# Altium schematic symbol library kmilo17pet-NSC_Switcher.SchLib: 2226 symbols (part 40 of 59)
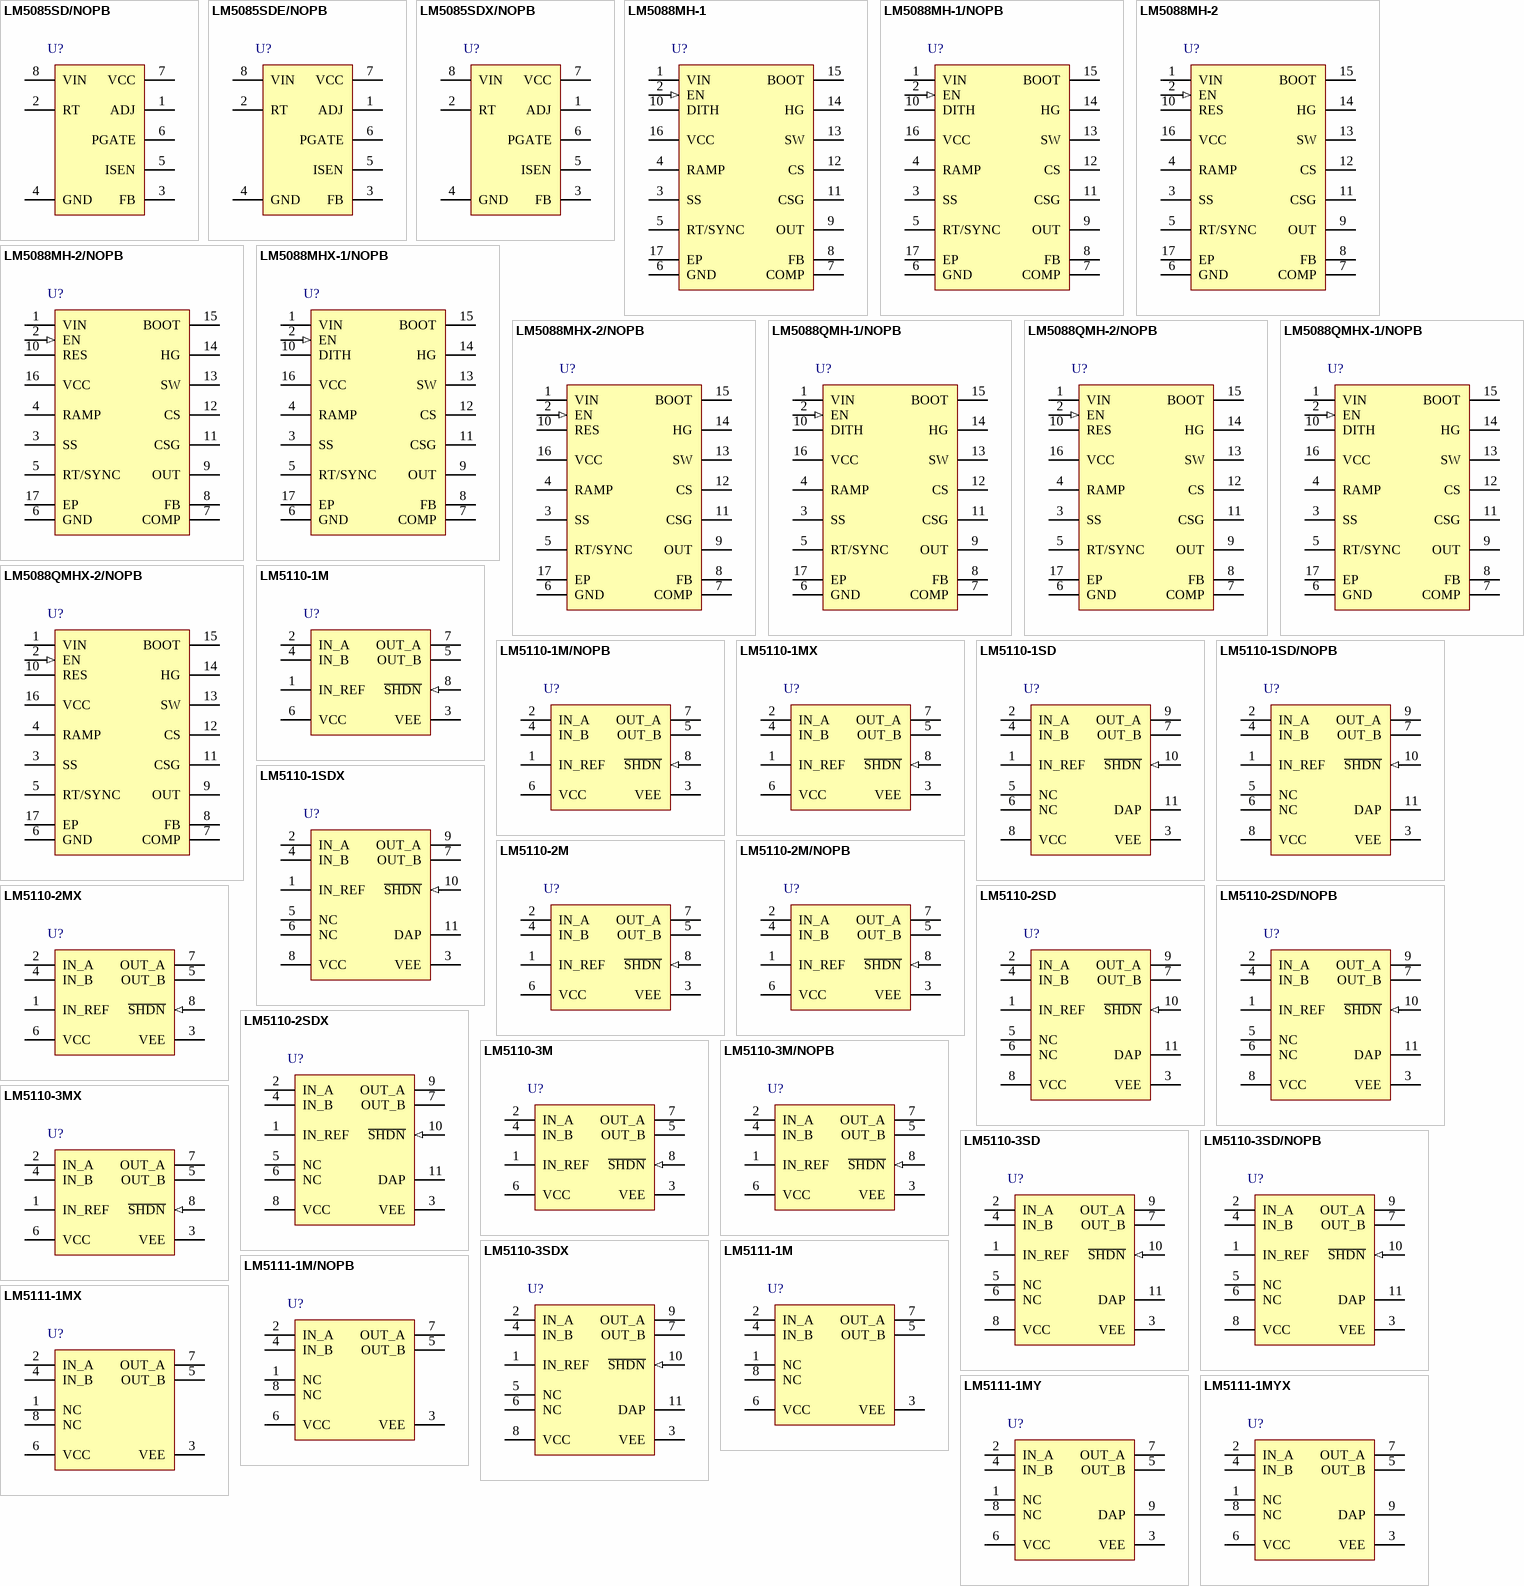
[diagram p108: symbols LM5085SD/NOPB to LM5111-1MYX]

## LM5110-3SD
designator U?
Dual 5A Compound Gate Driver with Negative Output Voltage Capability, 10-pin LLP; PartNumber: LM5110-3SD; Manufacturer: National Semiconductor; PackageTopMarking: NS*UZXYTT*5110-3; PowerWise: N; CompType: Switcher; High-Reliability: Y; DatasheetVersion: Oct-2003; PackageVersion: revA, May-2003; PackageReference: SDC10A; PackageDescription: LLP, Plastic, Dual, 4 x 4 x 0.8mm Body, 10 Lead, 0.8mm Pitch, No Pullback; RoHS: N; PinCount: 10; ComponentLink1Description: Manufacturer URL; ComponentLink1URL: http://www.national.com/; ComponentLink2Description: LM5110 Datasheet; ComponentLink2URL: http://www.national.com/ds/LM/LM5110.pdf; ComponentLink3Description: LM5110 Web Page; ComponentLink3URL: http://www.national.com/pf/LM/LM5110.html; ComponentLink4Description: SDC10A Package Page; ComponentLink4URL: http://www.national.com/packaging/folders/sdc10a.html
footprint SDC10A (SON, 10-Leads, Body 4x4 mm, Pitch 0.8mm, NSC Recommended)
pins: 1 IN_REF (power), 2 IN_A (power), 3 VEE (power), 4 IN_B (power), 5 NC, 6 NC, 7 OUT_B (power), 8 VCC (power), 9 OUT_A (power), 10 ~{SHDN} (in), 11 DAP (power)

## LM5110-3SD/NOPB
designator U?
Dual 5A Compound Gate Driver with Negative Output Voltage Capability, 10-pin LLP, Pb-Free; PartNumber: LM5110-3SD/NOPB; Manufacturer: National Semiconductor; PackageTopMarking: NS*UZXYTT*5110-3; PowerWise: N; CompType: Switcher; High-Reliability: Y; DatasheetVersion: Oct-2003; PackageVersion: revA, May-2003; PackageReference: SDC10A; PackageDescription: LLP, Plastic, Dual, 4 x 4 x 0.8mm Body, 10 Lead, 0.8mm Pitch, No Pullback; RoHS: Y; PinCount: 10; ComponentLink1Description: Manufacturer URL; ComponentLink1URL: http://www.national.com/; ComponentLink2Description: LM5110 Datasheet; ComponentLink2URL: http://www.national.com/ds/LM/LM5110.pdf; ComponentLink3Description: LM5110 Web Page; ComponentLink3URL: http://www.national.com/pf/LM/LM5110.html; ComponentLink4Description: SDC10A Package Page; ComponentLink4URL: http://www.national.com/packaging/folders/sdc10a.html
footprint SDC10A (SON, 10-Leads, Body 4x4 mm, Pitch 0.8mm, NSC Recommended)
pins: 1 IN_REF (power), 2 IN_A (power), 3 VEE (power), 4 IN_B (power), 5 NC, 6 NC, 7 OUT_B (power), 8 VCC (power), 9 OUT_A (power), 10 ~{SHDN} (in), 11 DAP (power)

## LM5110-3SDX
designator U?
Dual 5A Compound Gate Driver with Negative Output Voltage Capability, 10-pin LLP; PartNumber: LM5110-3SDX; Manufacturer: National Semiconductor; PackageTopMarking: NS*UZXYTT*5110-3; PowerWise: N; CompType: Switcher; High-Reliability: Y; DatasheetVersion: Oct-2003; PackageVersion: revA, May-2003; PackageReference: SDC10A; PackageDescription: LLP, Plastic, Dual, 4 x 4 x 0.8mm Body, 10 Lead, 0.8mm Pitch, No Pullback; RoHS: N; PinCount: 10; ComponentLink1Description: Manufacturer URL; ComponentLink1URL: http://www.national.com/; ComponentLink2Description: LM5110 Datasheet; ComponentLink2URL: http://www.national.com/ds/LM/LM5110.pdf; ComponentLink3Description: LM5110 Web Page; ComponentLink3URL: http://www.national.com/pf/LM/LM5110.html; ComponentLink4Description: SDC10A Package Page; ComponentLink4URL: http://www.national.com/packaging/folders/sdc10a.html
footprint SDC10A (SON, 10-Leads, Body 4x4 mm, Pitch 0.8mm, NSC Recommended)
pins: 1 IN_REF (power), 2 IN_A (power), 3 VEE (power), 4 IN_B (power), 5 NC, 6 NC, 7 OUT_B (power), 8 VCC (power), 9 OUT_A (power), 10 ~{SHDN} (in), 11 DAP (power)

## LM5111-1M
designator U?
Dual 5A Compound Gate Driver, 8-pin Narrow SOIC; PartNumber: LM5111-1M; Manufacturer: National Semiconductor; PackageTopMarking: NSXYTT*5111*-1M; PowerWise: N; CompType: Switcher; High-Reliability: Y; DatasheetVersion: Nov-2007; PackageVersion: revM, May-2009; PackageReference: M08A; PackageDescription: SOIC Narrow, 4.9 x 3.9 x 1.45mm, 8 Lead, 1.27mm Pitch; RoHS: N; PinCount: 8; Code_JEDEC: MS-012-AA; Code_IPC: SOIC127P600-8; ComponentLink1Description: Manufacturer URL; ComponentLink1URL: http://www.national.com/; ComponentLink2Description: LM5111 Datasheet; ComponentLink2URL: http://www.national.com/ds/LM/LM5111.pdf; ComponentLink3Description: LM5111 Web Page; ComponentLink3URL: http://www.national.com/pf/LM/LM5111.html; ComponentLink4Description: M08A Package Page; ComponentLink4URL: http://www.national.com/packaging/folders/m08a.html
footprint M08A_N (SOIC, 8-Leads, Body 4.9x3.9mm, Pitch 1.27mm, IPC Medium Density)
footprint M08A_L (SOIC, 8-Leads, Body 4.9x3.9mm, Pitch 1.27mm, IPC High Density)
footprint M08A_M (SOIC, 8-Leads, Body 4.9x3.9mm, Pitch 1.27mm, IPC Low Density)
pins: 1 NC, 2 IN_A (power), 3 VEE (power), 4 IN_B (power), 5 OUT_B (power), 6 VCC (power), 7 OUT_A (power), 8 NC

## LM5111-1M/NOPB
designator U?
Dual 5A Compound Gate Driver, 8-pin Narrow SOIC, Pb-Free; PartNumber: LM5111-1M/NOPB; Manufacturer: National Semiconductor; PackageTopMarking: NSXYTT*5111*-1M; PowerWise: N; CompType: Switcher; High-Reliability: Y; DatasheetVersion: Nov-2007; PackageVersion: revM, May-2009; PackageReference: M08A; PackageDescription: SOIC Narrow, 4.9 x 3.9 x 1.45mm, 8 Lead, 1.27mm Pitch; RoHS: Y; PinCount: 8; Code_JEDEC: MS-012-AA; Code_IPC: SOIC127P600-8; ComponentLink1Description: Manufacturer URL; ComponentLink1URL: http://www.national.com/; ComponentLink2Description: LM5111 Datasheet; ComponentLink2URL: http://www.national.com/ds/LM/LM5111.pdf; ComponentLink3Description: LM5111 Web Page; ComponentLink3URL: http://www.national.com/pf/LM/LM5111.html; ComponentLink4Description: M08A Package Page; ComponentLink4URL: http://www.national.com/packaging/folders/m08a.html
footprint M08A_N (SOIC, 8-Leads, Body 4.9x3.9mm, Pitch 1.27mm, IPC Medium Density)
footprint M08A_L (SOIC, 8-Leads, Body 4.9x3.9mm, Pitch 1.27mm, IPC High Density)
footprint M08A_M (SOIC, 8-Leads, Body 4.9x3.9mm, Pitch 1.27mm, IPC Low Density)
pins: 1 NC, 2 IN_A (power), 3 VEE (power), 4 IN_B (power), 5 OUT_B (power), 6 VCC (power), 7 OUT_A (power), 8 NC

## LM5111-1MX
designator U?
Dual 5A Compound Gate Driver, 8-pin Narrow SOIC; PartNumber: LM5111-1MX; Manufacturer: National Semiconductor; PackageTopMarking: NSZXTT*5111*-1M; PowerWise: N; CompType: Switcher; High-Reliability: Y; DatasheetVersion: Nov-2007; PackageVersion: revM, May-2009; PackageReference: M08A; PackageDescription: SOIC Narrow, 4.9 x 3.9 x 1.45mm, 8 Lead, 1.27mm Pitch; RoHS: N; PinCount: 8; Code_JEDEC: MS-012-AA; Code_IPC: SOIC127P600-8; ComponentLink1Description: Manufacturer URL; ComponentLink1URL: http://www.national.com/; ComponentLink2Description: LM5111 Datasheet; ComponentLink2URL: http://www.national.com/ds/LM/LM5111.pdf; ComponentLink3Description: LM5111 Web Page; ComponentLink3URL: http://www.national.com/pf/LM/LM5111.html; ComponentLink4Description: M08A Package Page; ComponentLink4URL: http://www.national.com/packaging/folders/m08a.html
footprint M08A_N (SOIC, 8-Leads, Body 4.9x3.9mm, Pitch 1.27mm, IPC Medium Density)
footprint M08A_L (SOIC, 8-Leads, Body 4.9x3.9mm, Pitch 1.27mm, IPC High Density)
footprint M08A_M (SOIC, 8-Leads, Body 4.9x3.9mm, Pitch 1.27mm, IPC Low Density)
pins: 1 NC, 2 IN_A (power), 3 VEE (power), 4 IN_B (power), 5 OUT_B (power), 6 VCC (power), 7 OUT_A (power), 8 NC

## LM5111-1MY
designator U?
Dual 5A Compound Gate Driver, 8-pin eMSOP; PartNumber: LM5111-1MY; Manufacturer: National Semiconductor; PackageTopMarking: ZXTT*SJKB; PowerWise: N; CompType: Switcher; High-Reliability: Y; DatasheetVersion: Nov-2007; PackageVersion: revA, Nov-2003; PackageReference: MUY08A; PackageDescription: Molded Mini-SO, Exposed Pad, .118 x .118 x .034in Body, 8 Lead, .0256in Pitch; RoHS: N; PinCount: 8; Code_JEDEC: MO-187-AA; ComponentLink1Description: Manufacturer URL; ComponentLink1URL: http://www.national.com/; ComponentLink2Description: LM5111 Datasheet; ComponentLink2URL: http://www.national.com/ds/LM/LM5111.pdf; ComponentLink3Description: LM5111 Web Page; ComponentLink3URL: http://www.national.com/pf/LM/LM5111.html; ComponentLink4Description: MUY08A Package Page; ComponentLink4URL: http://www.national.com/packaging/folders/muy08a.html
footprint MUY08A_N (TSOP, 8-Leads, Body 3x3mm, Pitch 0.65mm, Thermal Pad, IPC Medium Density)
footprint MUY08A_L (TSOP, 8-Leads, Body 3x3mm, Pitch 0.65mm, Thermal Pad, IPC High Density)
footprint MUY08A_M (TSOP, 8-Leads, Body 3x3mm, Pitch 0.65mm, Thermal Pad, IPC Low Density)
pins: 1 NC, 2 IN_A (power), 3 VEE (power), 4 IN_B (power), 5 OUT_B (power), 6 VCC (power), 7 OUT_A (power), 8 NC, 9 DAP (power)

## LM5111-1MYX
designator U?
Dual 5A Compound Gate Driver, 8-pin eMSOP; PartNumber: LM5111-1MYX; Manufacturer: National Semiconductor; PackageTopMarking: ZXTT*SJKB; PowerWise: N; CompType: Switcher; High-Reliability: Y; DatasheetVersion: Nov-2007; PackageVersion: revA, Nov-2003; PackageReference: MUY08A; PackageDescription: Molded Mini-SO, Exposed Pad, .118 x .118 x .034in Body, 8 Lead, .0256in Pitch; RoHS: N; PinCount: 8; Code_JEDEC: MO-187-AA; ComponentLink1Description: Manufacturer URL; ComponentLink1URL: http://www.national.com/; ComponentLink2Description: LM5111 Datasheet; ComponentLink2URL: http://www.national.com/ds/LM/LM5111.pdf; ComponentLink3Description: LM5111 Web Page; ComponentLink3URL: http://www.national.com/pf/LM/LM5111.html; ComponentLink4Description: MUY08A Package Page; ComponentLink4URL: http://www.national.com/packaging/folders/muy08a.html
footprint MUY08A_N (TSOP, 8-Leads, Body 3x3mm, Pitch 0.65mm, Thermal Pad, IPC Medium Density)
footprint MUY08A_L (TSOP, 8-Leads, Body 3x3mm, Pitch 0.65mm, Thermal Pad, IPC High Density)
footprint MUY08A_M (TSOP, 8-Leads, Body 3x3mm, Pitch 0.65mm, Thermal Pad, IPC Low Density)
pins: 1 NC, 2 IN_A (power), 3 VEE (power), 4 IN_B (power), 5 OUT_B (power), 6 VCC (power), 7 OUT_A (power), 8 NC, 9 DAP (power)

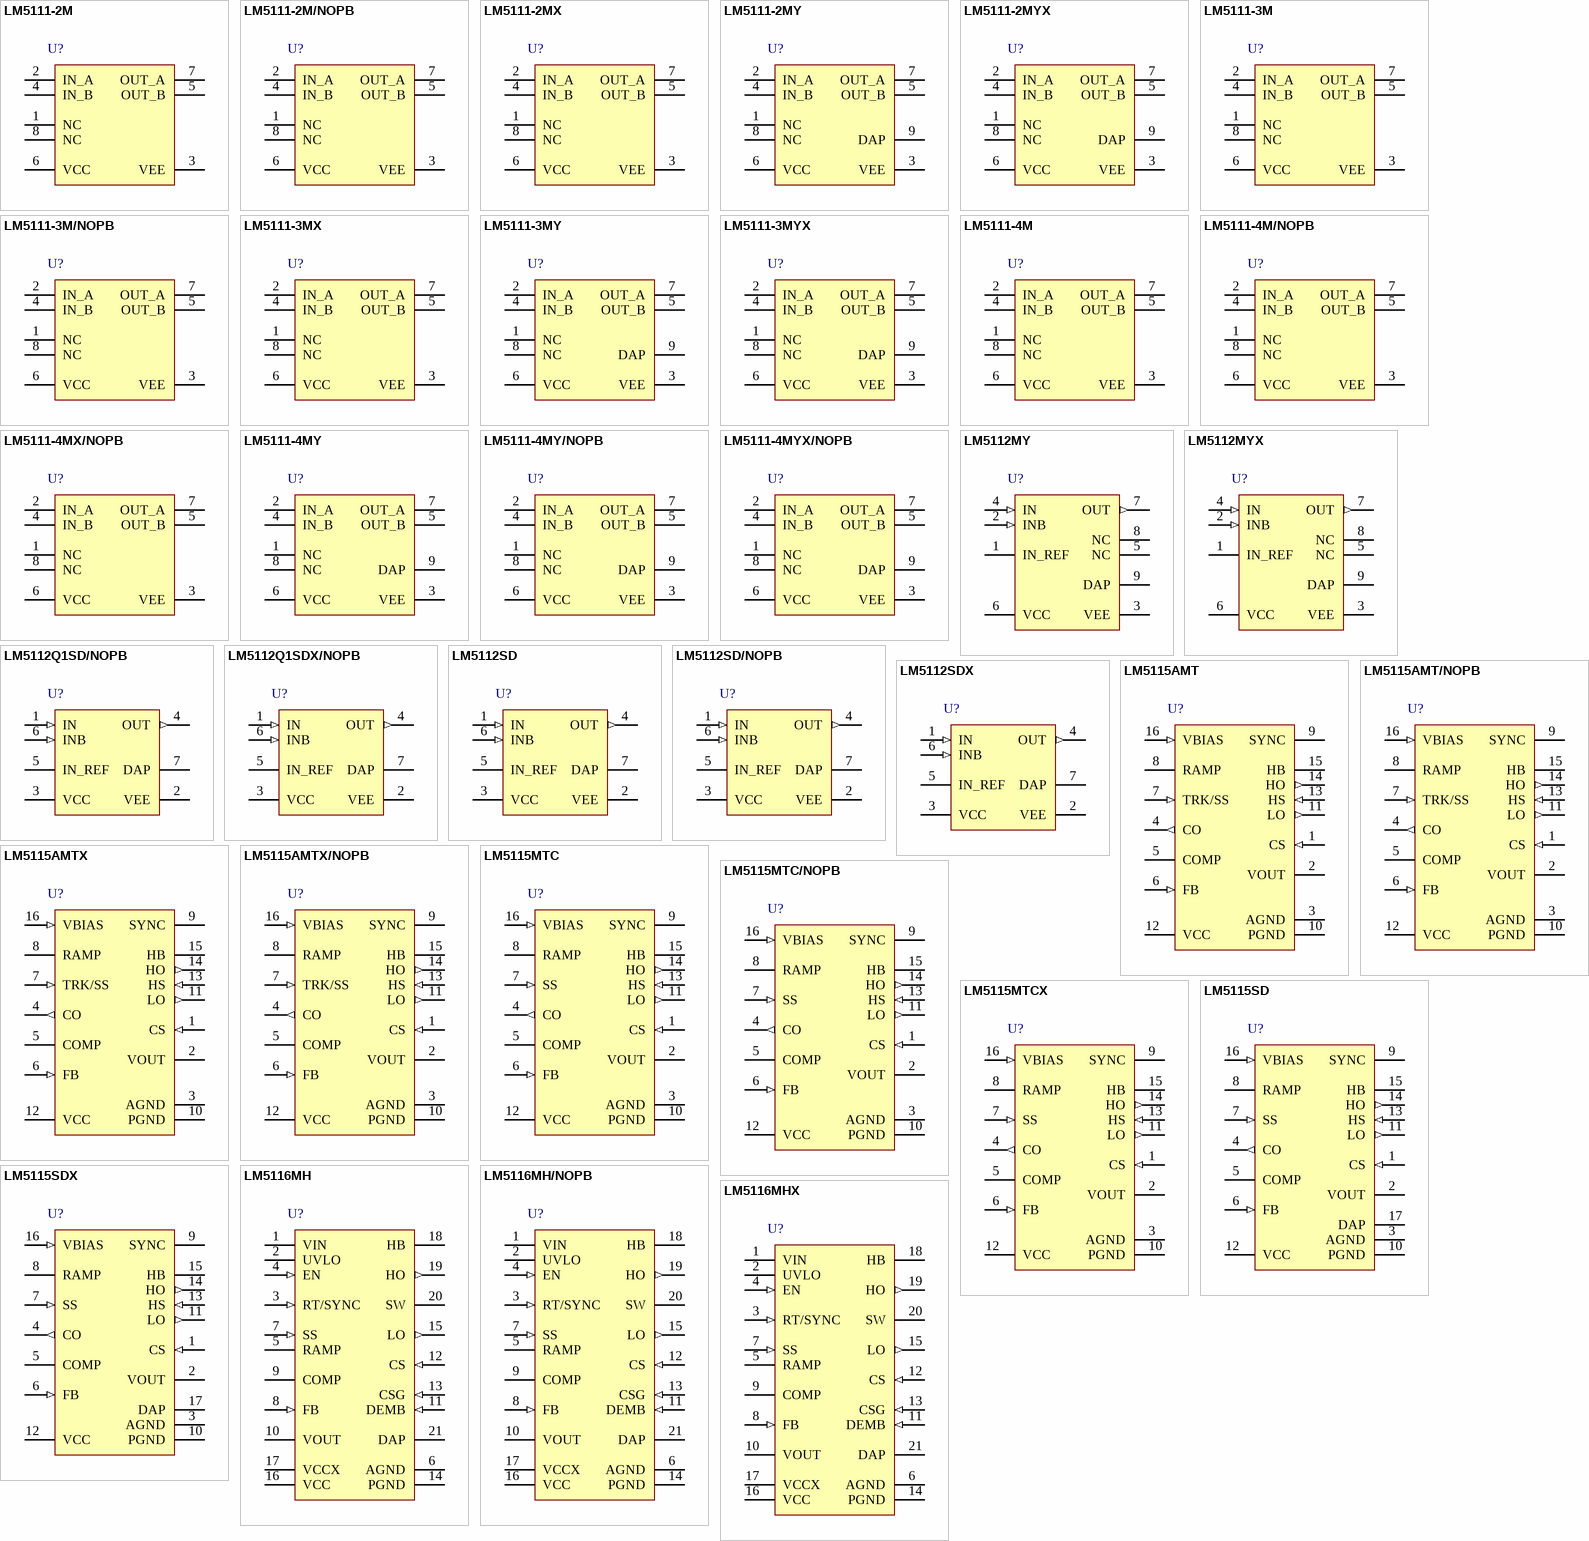
[diagram p44: symbols LM5111-2M to LM5116MHX]

## LM5111-2M
designator U?
Dual 5A Compound Gate Driver, 8-pin Narrow SOIC; PartNumber: LM5111-2M; Manufacturer: National Semiconductor; PackageTopMarking: NSXYTT*5111*-2M; PowerWise: N; CompType: Switcher; High-Reliability: Y; DatasheetVersion: Nov-2007; PackageVersion: revM, May-2009; PackageReference: M08A; PackageDescription: SOIC Narrow, 4.9 x 3.9 x 1.45mm, 8 Lead, 1.27mm Pitch; RoHS: N; PinCount: 8; Code_JEDEC: MS-012-AA; Code_IPC: SOIC127P600-8; ComponentLink1Description: Manufacturer URL; ComponentLink1URL: http://www.national.com/; ComponentLink2Description: LM5111 Datasheet; ComponentLink2URL: http://www.national.com/ds/LM/LM5111.pdf; ComponentLink3Description: LM5111 Web Page; ComponentLink3URL: http://www.national.com/pf/LM/LM5111.html; ComponentLink4Description: M08A Package Page; ComponentLink4URL: http://www.national.com/packaging/folders/m08a.html
footprint M08A_N (SOIC, 8-Leads, Body 4.9x3.9mm, Pitch 1.27mm, IPC Medium Density)
footprint M08A_L (SOIC, 8-Leads, Body 4.9x3.9mm, Pitch 1.27mm, IPC High Density)
footprint M08A_M (SOIC, 8-Leads, Body 4.9x3.9mm, Pitch 1.27mm, IPC Low Density)
pins: 1 NC, 2 IN_A (power), 3 VEE (power), 4 IN_B (power), 5 OUT_B (power), 6 VCC (power), 7 OUT_A (power), 8 NC

## LM5111-2M/NOPB
designator U?
Dual 5A Compound Gate Driver, 8-pin Narrow SOIC, Pb-Free; PartNumber: LM5111-2M/NOPB; Manufacturer: National Semiconductor; PackageTopMarking: NSXYTT*5111*-2M; PowerWise: N; CompType: Switcher; High-Reliability: Y; DatasheetVersion: Nov-2007; PackageVersion: revM, May-2009; PackageReference: M08A; PackageDescription: SOIC Narrow, 4.9 x 3.9 x 1.45mm, 8 Lead, 1.27mm Pitch; RoHS: Y; PinCount: 8; Code_JEDEC: MS-012-AA; Code_IPC: SOIC127P600-8; ComponentLink1Description: Manufacturer URL; ComponentLink1URL: http://www.national.com/; ComponentLink2Description: LM5111 Datasheet; ComponentLink2URL: http://www.national.com/ds/LM/LM5111.pdf; ComponentLink3Description: LM5111 Web Page; ComponentLink3URL: http://www.national.com/pf/LM/LM5111.html; ComponentLink4Description: M08A Package Page; ComponentLink4URL: http://www.national.com/packaging/folders/m08a.html
footprint M08A_N (SOIC, 8-Leads, Body 4.9x3.9mm, Pitch 1.27mm, IPC Medium Density)
footprint M08A_L (SOIC, 8-Leads, Body 4.9x3.9mm, Pitch 1.27mm, IPC High Density)
footprint M08A_M (SOIC, 8-Leads, Body 4.9x3.9mm, Pitch 1.27mm, IPC Low Density)
pins: 1 NC, 2 IN_A (power), 3 VEE (power), 4 IN_B (power), 5 OUT_B (power), 6 VCC (power), 7 OUT_A (power), 8 NC

## LM5111-2MX
designator U?
Dual 5A Compound Gate Driver, 8-pin Narrow SOIC; PartNumber: LM5111-2MX; Manufacturer: National Semiconductor; PackageTopMarking: NSZXTT*5111*-2M; PowerWise: N; CompType: Switcher; High-Reliability: Y; DatasheetVersion: Nov-2007; PackageVersion: revM, May-2009; PackageReference: M08A; PackageDescription: SOIC Narrow, 4.9 x 3.9 x 1.45mm, 8 Lead, 1.27mm Pitch; RoHS: N; PinCount: 8; Code_JEDEC: MS-012-AA; Code_IPC: SOIC127P600-8; ComponentLink1Description: Manufacturer URL; ComponentLink1URL: http://www.national.com/; ComponentLink2Description: LM5111 Datasheet; ComponentLink2URL: http://www.national.com/ds/LM/LM5111.pdf; ComponentLink3Description: LM5111 Web Page; ComponentLink3URL: http://www.national.com/pf/LM/LM5111.html; ComponentLink4Description: M08A Package Page; ComponentLink4URL: http://www.national.com/packaging/folders/m08a.html
footprint M08A_N (SOIC, 8-Leads, Body 4.9x3.9mm, Pitch 1.27mm, IPC Medium Density)
footprint M08A_L (SOIC, 8-Leads, Body 4.9x3.9mm, Pitch 1.27mm, IPC High Density)
footprint M08A_M (SOIC, 8-Leads, Body 4.9x3.9mm, Pitch 1.27mm, IPC Low Density)
pins: 1 NC, 2 IN_A (power), 3 VEE (power), 4 IN_B (power), 5 OUT_B (power), 6 VCC (power), 7 OUT_A (power), 8 NC

## LM5111-2MY
designator U?
Dual 5A Compound Gate Driver, 8-pin eMSOP; PartNumber: LM5111-2MY; Manufacturer: National Semiconductor; PackageTopMarking: ZXTT*SJLB; PowerWise: N; CompType: Switcher; High-Reliability: Y; DatasheetVersion: Nov-2007; PackageVersion: revA, Nov-2003; PackageReference: MUY08A; PackageDescription: Molded Mini-SO, Exposed Pad, .118 x .118 x .034in Body, 8 Lead, .0256in Pitch; RoHS: N; PinCount: 8; Code_JEDEC: MO-187-AA; ComponentLink1Description: Manufacturer URL; ComponentLink1URL: http://www.national.com/; ComponentLink2Description: LM5111 Datasheet; ComponentLink2URL: http://www.national.com/ds/LM/LM5111.pdf; ComponentLink3Description: LM5111 Web Page; ComponentLink3URL: http://www.national.com/pf/LM/LM5111.html; ComponentLink4Description: MUY08A Package Page; ComponentLink4URL: http://www.national.com/packaging/folders/muy08a.html
footprint MUY08A_N (TSOP, 8-Leads, Body 3x3mm, Pitch 0.65mm, Thermal Pad, IPC Medium Density)
footprint MUY08A_L (TSOP, 8-Leads, Body 3x3mm, Pitch 0.65mm, Thermal Pad, IPC High Density)
footprint MUY08A_M (TSOP, 8-Leads, Body 3x3mm, Pitch 0.65mm, Thermal Pad, IPC Low Density)
pins: 1 NC, 2 IN_A (power), 3 VEE (power), 4 IN_B (power), 5 OUT_B (power), 6 VCC (power), 7 OUT_A (power), 8 NC, 9 DAP (power)

## LM5111-2MYX
designator U?
Dual 5A Compound Gate Driver, 8-pin eMSOP; PartNumber: LM5111-2MYX; Manufacturer: National Semiconductor; PackageTopMarking: ZXTT*SJLB; PowerWise: N; CompType: Switcher; High-Reliability: Y; DatasheetVersion: Nov-2007; PackageVersion: revA, Nov-2003; PackageReference: MUY08A; PackageDescription: Molded Mini-SO, Exposed Pad, .118 x .118 x .034in Body, 8 Lead, .0256in Pitch; RoHS: N; PinCount: 8; Code_JEDEC: MO-187-AA; ComponentLink1Description: Manufacturer URL; ComponentLink1URL: http://www.national.com/; ComponentLink2Description: LM5111 Datasheet; ComponentLink2URL: http://www.national.com/ds/LM/LM5111.pdf; ComponentLink3Description: LM5111 Web Page; ComponentLink3URL: http://www.national.com/pf/LM/LM5111.html; ComponentLink4Description: MUY08A Package Page; ComponentLink4URL: http://www.national.com/packaging/folders/muy08a.html
footprint MUY08A_N (TSOP, 8-Leads, Body 3x3mm, Pitch 0.65mm, Thermal Pad, IPC Medium Density)
footprint MUY08A_L (TSOP, 8-Leads, Body 3x3mm, Pitch 0.65mm, Thermal Pad, IPC High Density)
footprint MUY08A_M (TSOP, 8-Leads, Body 3x3mm, Pitch 0.65mm, Thermal Pad, IPC Low Density)
pins: 1 NC, 2 IN_A (power), 3 VEE (power), 4 IN_B (power), 5 OUT_B (power), 6 VCC (power), 7 OUT_A (power), 8 NC, 9 DAP (power)

## LM5111-3M
designator U?
Dual 5A Compound Gate Driver, 8-pin Narrow SOIC; PartNumber: LM5111-3M; Manufacturer: National Semiconductor; PackageTopMarking: NSXYTT*5111*-3M; PowerWise: N; CompType: Switcher; High-Reliability: Y; DatasheetVersion: Nov-2007; PackageVersion: revM, May-2009; PackageReference: M08A; PackageDescription: SOIC Narrow, 4.9 x 3.9 x 1.45mm, 8 Lead, 1.27mm Pitch; RoHS: N; PinCount: 8; Code_JEDEC: MS-012-AA; Code_IPC: SOIC127P600-8; ComponentLink1Description: Manufacturer URL; ComponentLink1URL: http://www.national.com/; ComponentLink2Description: LM5111 Datasheet; ComponentLink2URL: http://www.national.com/ds/LM/LM5111.pdf; ComponentLink3Description: LM5111 Web Page; ComponentLink3URL: http://www.national.com/pf/LM/LM5111.html; ComponentLink4Description: M08A Package Page; ComponentLink4URL: http://www.national.com/packaging/folders/m08a.html
footprint M08A_N (SOIC, 8-Leads, Body 4.9x3.9mm, Pitch 1.27mm, IPC Medium Density)
footprint M08A_L (SOIC, 8-Leads, Body 4.9x3.9mm, Pitch 1.27mm, IPC High Density)
footprint M08A_M (SOIC, 8-Leads, Body 4.9x3.9mm, Pitch 1.27mm, IPC Low Density)
pins: 1 NC, 2 IN_A (power), 3 VEE (power), 4 IN_B (power), 5 OUT_B (power), 6 VCC (power), 7 OUT_A (power), 8 NC

## LM5111-3M/NOPB
designator U?
Dual 5A Compound Gate Driver, 8-pin Narrow SOIC, Pb-Free; PartNumber: LM5111-3M/NOPB; Manufacturer: National Semiconductor; PackageTopMarking: NSXYTT*5111*-3M; PowerWise: N; CompType: Switcher; High-Reliability: Y; DatasheetVersion: Nov-2007; PackageVersion: revM, May-2009; PackageReference: M08A; PackageDescription: SOIC Narrow, 4.9 x 3.9 x 1.45mm, 8 Lead, 1.27mm Pitch; RoHS: Y; PinCount: 8; Code_JEDEC: MS-012-AA; Code_IPC: SOIC127P600-8; ComponentLink1Description: Manufacturer URL; ComponentLink1URL: http://www.national.com/; ComponentLink2Description: LM5111 Datasheet; ComponentLink2URL: http://www.national.com/ds/LM/LM5111.pdf; ComponentLink3Description: LM5111 Web Page; ComponentLink3URL: http://www.national.com/pf/LM/LM5111.html; ComponentLink4Description: M08A Package Page; ComponentLink4URL: http://www.national.com/packaging/folders/m08a.html
footprint M08A_N (SOIC, 8-Leads, Body 4.9x3.9mm, Pitch 1.27mm, IPC Medium Density)
footprint M08A_L (SOIC, 8-Leads, Body 4.9x3.9mm, Pitch 1.27mm, IPC High Density)
footprint M08A_M (SOIC, 8-Leads, Body 4.9x3.9mm, Pitch 1.27mm, IPC Low Density)
pins: 1 NC, 2 IN_A (power), 3 VEE (power), 4 IN_B (power), 5 OUT_B (power), 6 VCC (power), 7 OUT_A (power), 8 NC

## LM5111-3MX
designator U?
Dual 5A Compound Gate Driver, 8-pin Narrow SOIC; PartNumber: LM5111-3MX; Manufacturer: National Semiconductor; PackageTopMarking: NSZXTT*5111*-3M; PowerWise: N; CompType: Switcher; High-Reliability: Y; DatasheetVersion: Nov-2007; PackageVersion: revM, May-2009; PackageReference: M08A; PackageDescription: SOIC Narrow, 4.9 x 3.9 x 1.45mm, 8 Lead, 1.27mm Pitch; RoHS: N; PinCount: 8; Code_JEDEC: MS-012-AA; Code_IPC: SOIC127P600-8; ComponentLink1Description: Manufacturer URL; ComponentLink1URL: http://www.national.com/; ComponentLink2Description: LM5111 Datasheet; ComponentLink2URL: http://www.national.com/ds/LM/LM5111.pdf; ComponentLink3Description: LM5111 Web Page; ComponentLink3URL: http://www.national.com/pf/LM/LM5111.html; ComponentLink4Description: M08A Package Page; ComponentLink4URL: http://www.national.com/packaging/folders/m08a.html
footprint M08A_N (SOIC, 8-Leads, Body 4.9x3.9mm, Pitch 1.27mm, IPC Medium Density)
footprint M08A_L (SOIC, 8-Leads, Body 4.9x3.9mm, Pitch 1.27mm, IPC High Density)
footprint M08A_M (SOIC, 8-Leads, Body 4.9x3.9mm, Pitch 1.27mm, IPC Low Density)
pins: 1 NC, 2 IN_A (power), 3 VEE (power), 4 IN_B (power), 5 OUT_B (power), 6 VCC (power), 7 OUT_A (power), 8 NC

## LM5111-3MY
designator U?
Dual 5A Compound Gate Driver, 8-pin eMSOP; PartNumber: LM5111-3MY; Manufacturer: National Semiconductor; PackageTopMarking: ZXTT*SJNB; PowerWise: N; CompType: Switcher; High-Reliability: Y; DatasheetVersion: Nov-2007; PackageVersion: revA, Nov-2003; PackageReference: MUY08A; PackageDescription: Molded Mini-SO, Exposed Pad, .118 x .118 x .034in Body, 8 Lead, .0256in Pitch; RoHS: N; PinCount: 8; Code_JEDEC: MO-187-AA; ComponentLink1Description: Manufacturer URL; ComponentLink1URL: http://www.national.com/; ComponentLink2Description: LM5111 Datasheet; ComponentLink2URL: http://www.national.com/ds/LM/LM5111.pdf; ComponentLink3Description: LM5111 Web Page; ComponentLink3URL: http://www.national.com/pf/LM/LM5111.html; ComponentLink4Description: MUY08A Package Page; ComponentLink4URL: http://www.national.com/packaging/folders/muy08a.html
footprint MUY08A_N (TSOP, 8-Leads, Body 3x3mm, Pitch 0.65mm, Thermal Pad, IPC Medium Density)
footprint MUY08A_L (TSOP, 8-Leads, Body 3x3mm, Pitch 0.65mm, Thermal Pad, IPC High Density)
footprint MUY08A_M (TSOP, 8-Leads, Body 3x3mm, Pitch 0.65mm, Thermal Pad, IPC Low Density)
pins: 1 NC, 2 IN_A (power), 3 VEE (power), 4 IN_B (power), 5 OUT_B (power), 6 VCC (power), 7 OUT_A (power), 8 NC, 9 DAP (power)

## LM5111-3MYX
designator U?
Dual 5A Compound Gate Driver, 8-pin eMSOP; PartNumber: LM5111-3MYX; Manufacturer: National Semiconductor; PackageTopMarking: ZXTT*SJNB; PowerWise: N; CompType: Switcher; High-Reliability: Y; DatasheetVersion: Nov-2007; PackageVersion: revA, Nov-2003; PackageReference: MUY08A; PackageDescription: Molded Mini-SO, Exposed Pad, .118 x .118 x .034in Body, 8 Lead, .0256in Pitch; RoHS: N; PinCount: 8; Code_JEDEC: MO-187-AA; ComponentLink1Description: Manufacturer URL; ComponentLink1URL: http://www.national.com/; ComponentLink2Description: LM5111 Datasheet; ComponentLink2URL: http://www.national.com/ds/LM/LM5111.pdf; ComponentLink3Description: LM5111 Web Page; ComponentLink3URL: http://www.national.com/pf/LM/LM5111.html; ComponentLink4Description: MUY08A Package Page; ComponentLink4URL: http://www.national.com/packaging/folders/muy08a.html
footprint MUY08A_N (TSOP, 8-Leads, Body 3x3mm, Pitch 0.65mm, Thermal Pad, IPC Medium Density)
footprint MUY08A_L (TSOP, 8-Leads, Body 3x3mm, Pitch 0.65mm, Thermal Pad, IPC High Density)
footprint MUY08A_M (TSOP, 8-Leads, Body 3x3mm, Pitch 0.65mm, Thermal Pad, IPC Low Density)
pins: 1 NC, 2 IN_A (power), 3 VEE (power), 4 IN_B (power), 5 OUT_B (power), 6 VCC (power), 7 OUT_A (power), 8 NC, 9 DAP (power)

## LM5111-4M
designator U?
Dual 5A Compound Gate Driver, 8-pin Narrow SOIC; PartNumber: LM5111-4M; Manufacturer: National Semiconductor; PackageTopMarking: NSZXTT*5111*-4M; PowerWise: N; CompType: Switcher; High-Reliability: Y; DatasheetVersion: Nov-2007; PackageVersion: revM, May-2009; PackageReference: M08A; PackageDescription: SOIC Narrow, 4.9 x 3.9 x 1.45mm, 8 Lead, 1.27mm Pitch; RoHS: Y; PinCount: 8; Code_JEDEC: MS-012-AA; Code_IPC: SOIC127P600-8; ComponentLink1Description: Manufacturer URL; ComponentLink1URL: http://www.national.com/; ComponentLink2Description: LM5111 Datasheet; ComponentLink2URL: http://www.national.com/ds/LM/LM5111.pdf; ComponentLink3Description: LM5111 Web Page; ComponentLink3URL: http://www.national.com/pf/LM/LM5111.html; ComponentLink4Description: M08A Package Page; ComponentLink4URL: http://www.national.com/packaging/folders/m08a.html
footprint M08A_N (SOIC, 8-Leads, Body 4.9x3.9mm, Pitch 1.27mm, IPC Medium Density)
footprint M08A_L (SOIC, 8-Leads, Body 4.9x3.9mm, Pitch 1.27mm, IPC High Density)
footprint M08A_M (SOIC, 8-Leads, Body 4.9x3.9mm, Pitch 1.27mm, IPC Low Density)
pins: 1 NC, 2 IN_A (power), 3 VEE (power), 4 IN_B (power), 5 OUT_B (power), 6 VCC (power), 7 OUT_A (power), 8 NC

## LM5111-4M/NOPB
designator U?
Dual 5A Compound Gate Driver, 8-pin Narrow SOIC, Pb-Free; PartNumber: LM5111-4M/NOPB; Manufacturer: National Semiconductor; PackageTopMarking: NSZXTT*5111*-4M; PowerWise: N; CompType: Switcher; High-Reliability: Y; DatasheetVersion: Nov-2007; PackageVersion: revM, May-2009; PackageReference: M08A; PackageDescription: SOIC Narrow, 4.9 x 3.9 x 1.45mm, 8 Lead, 1.27mm Pitch; RoHS: Y; PinCount: 8; Code_JEDEC: MS-012-AA; Code_IPC: SOIC127P600-8; ComponentLink1Description: Manufacturer URL; ComponentLink1URL: http://www.national.com/; ComponentLink2Description: LM5111 Datasheet; ComponentLink2URL: http://www.national.com/ds/LM/LM5111.pdf; ComponentLink3Description: LM5111 Web Page; ComponentLink3URL: http://www.national.com/pf/LM/LM5111.html; ComponentLink4Description: M08A Package Page; ComponentLink4URL: http://www.national.com/packaging/folders/m08a.html
footprint M08A_N (SOIC, 8-Leads, Body 4.9x3.9mm, Pitch 1.27mm, IPC Medium Density)
footprint M08A_L (SOIC, 8-Leads, Body 4.9x3.9mm, Pitch 1.27mm, IPC High Density)
footprint M08A_M (SOIC, 8-Leads, Body 4.9x3.9mm, Pitch 1.27mm, IPC Low Density)
pins: 1 NC, 2 IN_A (power), 3 VEE (power), 4 IN_B (power), 5 OUT_B (power), 6 VCC (power), 7 OUT_A (power), 8 NC

## LM5111-4MX/NOPB
designator U?
Dual 5A Compound Gate Driver, 8-pin Narrow SOIC, Pb-Free; PartNumber: LM5111-4MX/NOPB; Manufacturer: National Semiconductor; PackageTopMarking: NSZXTT*5111*-4M; PowerWise: N; CompType: Switcher; High-Reliability: Y; DatasheetVersion: Nov-2007; PackageVersion: revM, May-2009; PackageReference: M08A; PackageDescription: SOIC Narrow, 4.9 x 3.9 x 1.45mm, 8 Lead, 1.27mm Pitch; RoHS: Y; PinCount: 8; Code_JEDEC: MS-012-AA; Code_IPC: SOIC127P600-8; ComponentLink1Description: Manufacturer URL; ComponentLink1URL: http://www.national.com/; ComponentLink2Description: LM5111 Datasheet; ComponentLink2URL: http://www.national.com/ds/LM/LM5111.pdf; ComponentLink3Description: LM5111 Web Page; ComponentLink3URL: http://www.national.com/pf/LM/LM5111.html; ComponentLink4Description: M08A Package Page; ComponentLink4URL: http://www.national.com/packaging/folders/m08a.html
footprint M08A_N (SOIC, 8-Leads, Body 4.9x3.9mm, Pitch 1.27mm, IPC Medium Density)
footprint M08A_L (SOIC, 8-Leads, Body 4.9x3.9mm, Pitch 1.27mm, IPC High Density)
footprint M08A_M (SOIC, 8-Leads, Body 4.9x3.9mm, Pitch 1.27mm, IPC Low Density)
pins: 1 NC, 2 IN_A (power), 3 VEE (power), 4 IN_B (power), 5 OUT_B (power), 6 VCC (power), 7 OUT_A (power), 8 NC

## LM5111-4MY
designator U?
Dual 5A Compound Gate Driver, 8-pin eMSOP; PartNumber: LM5111-4MY; Manufacturer: National Semiconductor; PackageTopMarking: ZXTT*SSYB; PowerWise: N; CompType: Switcher; High-Reliability: Y; DatasheetVersion: Nov-2007; PackageVersion: revA, Nov-2003; PackageReference: MUY08A; PackageDescription: Molded Mini-SO, Exposed Pad, .118 x .118 x .034in Body, 8 Lead, .0256in Pitch; RoHS: Y; PinCount: 8; Code_JEDEC: MO-187-AA; ComponentLink1Description: Manufacturer URL; ComponentLink1URL: http://www.national.com/; ComponentLink2Description: LM5111 Datasheet; ComponentLink2URL: http://www.national.com/ds/LM/LM5111.pdf; ComponentLink3Description: LM5111 Web Page; ComponentLink3URL: http://www.national.com/pf/LM/LM5111.html; ComponentLink4Description: MUY08A Package Page; ComponentLink4URL: http://www.national.com/packaging/folders/muy08a.html
footprint MUY08A_N (TSOP, 8-Leads, Body 3x3mm, Pitch 0.65mm, Thermal Pad, IPC Medium Density)
footprint MUY08A_L (TSOP, 8-Leads, Body 3x3mm, Pitch 0.65mm, Thermal Pad, IPC High Density)
footprint MUY08A_M (TSOP, 8-Leads, Body 3x3mm, Pitch 0.65mm, Thermal Pad, IPC Low Density)
pins: 1 NC, 2 IN_A (power), 3 VEE (power), 4 IN_B (power), 5 OUT_B (power), 6 VCC (power), 7 OUT_A (power), 8 NC, 9 DAP (power)

## LM5111-4MY/NOPB
designator U?
Dual 5A Compound Gate Driver, 8-pin eMSOP, Pb-Free; PartNumber: LM5111-4MY/NOPB; Manufacturer: National Semiconductor; PackageTopMarking: ZXTT*SSYB; PowerWise: N; CompType: Switcher; High-Reliability: Y; DatasheetVersion: Nov-2007; PackageVersion: revA, Nov-2003; PackageReference: MUY08A; PackageDescription: Molded Mini-SO, Exposed Pad, .118 x .118 x .034in Body, 8 Lead, .0256in Pitch; RoHS: Y; PinCount: 8; Code_JEDEC: MO-187-AA; ComponentLink1Description: Manufacturer URL; ComponentLink1URL: http://www.national.com/; ComponentLink2Description: LM5111 Datasheet; ComponentLink2URL: http://www.national.com/ds/LM/LM5111.pdf; ComponentLink3Description: LM5111 Web Page; ComponentLink3URL: http://www.national.com/pf/LM/LM5111.html; ComponentLink4Description: MUY08A Package Page; ComponentLink4URL: http://www.national.com/packaging/folders/muy08a.html
footprint MUY08A_N (TSOP, 8-Leads, Body 3x3mm, Pitch 0.65mm, Thermal Pad, IPC Medium Density)
footprint MUY08A_L (TSOP, 8-Leads, Body 3x3mm, Pitch 0.65mm, Thermal Pad, IPC High Density)
footprint MUY08A_M (TSOP, 8-Leads, Body 3x3mm, Pitch 0.65mm, Thermal Pad, IPC Low Density)
pins: 1 NC, 2 IN_A (power), 3 VEE (power), 4 IN_B (power), 5 OUT_B (power), 6 VCC (power), 7 OUT_A (power), 8 NC, 9 DAP (power)

## LM5111-4MYX/NOPB
designator U?
Dual 5A Compound Gate Driver, 8-pin eMSOP, Pb-Free; PartNumber: LM5111-4MYX/NOPB; Manufacturer: National Semiconductor; PackageTopMarking: ZXTT*SSYB; PowerWise: N; CompType: Switcher; High-Reliability: Y; DatasheetVersion: Nov-2007; PackageVersion: revA, Nov-2003; PackageReference: MUY08A; PackageDescription: Molded Mini-SO, Exposed Pad, .118 x .118 x .034in Body, 8 Lead, .0256in Pitch; RoHS: Y; PinCount: 8; Code_JEDEC: MO-187-AA; ComponentLink1Description: Manufacturer URL; ComponentLink1URL: http://www.national.com/; ComponentLink2Description: LM5111 Datasheet; ComponentLink2URL: http://www.national.com/ds/LM/LM5111.pdf; ComponentLink3Description: LM5111 Web Page; ComponentLink3URL: http://www.national.com/pf/LM/LM5111.html; ComponentLink4Description: MUY08A Package Page; ComponentLink4URL: http://www.national.com/packaging/folders/muy08a.html
footprint MUY08A_N (TSOP, 8-Leads, Body 3x3mm, Pitch 0.65mm, Thermal Pad, IPC Medium Density)
footprint MUY08A_L (TSOP, 8-Leads, Body 3x3mm, Pitch 0.65mm, Thermal Pad, IPC High Density)
footprint MUY08A_M (TSOP, 8-Leads, Body 3x3mm, Pitch 0.65mm, Thermal Pad, IPC Low Density)
pins: 1 NC, 2 IN_A (power), 3 VEE (power), 4 IN_B (power), 5 OUT_B (power), 6 VCC (power), 7 OUT_A (power), 8 NC, 9 DAP (power)

## LM5112MY
designator U?
Tiny 7A MOSFET Gate Driver, 8-pin eMSOP; PartNumber: LM5112MY; Manufacturer: National Semiconductor; PackageTopMarking: ZXTT*SJJB; PowerWise: N; CompType: Switcher; High-Reliability: Y; DatasheetVersion: Apr-2006; PackageVersion: revA, Nov-2003; PackageReference: MUY08A; PackageDescription: Molded Mini-SO, Exposed Pad, .118 x .118 x .034in Body, 8 Lead, .0256in Pitch; RoHS: N; PinCount: 8; Code_JEDEC: MO-187-AA; ComponentLink1Description: Manufacturer URL; ComponentLink1URL: http://www.national.com/; ComponentLink2Description: LM5112 Datasheet; ComponentLink2URL: http://www.national.com/ds/LM/LM5112.pdf; ComponentLink3Description: LM5112 Web Page; ComponentLink3URL: http://www.national.com/pf/LM/LM5112.html; ComponentLink4Description: MUY08A Package Page; ComponentLink4URL: http://www.national.com/packaging/folders/muy08a.html
footprint MUY08A_N (TSOP, 8-Leads, Body 3x3mm, Pitch 0.65mm, Thermal Pad, IPC Medium Density)
footprint MUY08A_L (TSOP, 8-Leads, Body 3x3mm, Pitch 0.65mm, Thermal Pad, IPC High Density)
footprint MUY08A_M (TSOP, 8-Leads, Body 3x3mm, Pitch 0.65mm, Thermal Pad, IPC Low Density)
pins: 1 IN_REF (power), 2 INB (in), 3 VEE (power), 4 IN (in), 5 NC, 6 VCC (power), 7 OUT (out), 8 NC, 9 DAP (power)

## LM5112MYX
designator U?
Tiny 7A MOSFET Gate Driver, 8-pin eMSOP; PartNumber: LM5112MYX; Manufacturer: National Semiconductor; PackageTopMarking: ZXTT*SJJB; PowerWise: N; CompType: Switcher; High-Reliability: Y; DatasheetVersion: Apr-2006; PackageVersion: revA, Nov-2003; PackageReference: MUY08A; PackageDescription: Molded Mini-SO, Exposed Pad, .118 x .118 x .034in Body, 8 Lead, .0256in Pitch; RoHS: N; PinCount: 8; Code_JEDEC: MO-187-AA; ComponentLink1Description: Manufacturer URL; ComponentLink1URL: http://www.national.com/; ComponentLink2Description: LM5112 Datasheet; ComponentLink2URL: http://www.national.com/ds/LM/LM5112.pdf; ComponentLink3Description: LM5112 Web Page; ComponentLink3URL: http://www.national.com/pf/LM/LM5112.html; ComponentLink4Description: MUY08A Package Page; ComponentLink4URL: http://www.national.com/packaging/folders/muy08a.html
footprint MUY08A_N (TSOP, 8-Leads, Body 3x3mm, Pitch 0.65mm, Thermal Pad, IPC Medium Density)
footprint MUY08A_L (TSOP, 8-Leads, Body 3x3mm, Pitch 0.65mm, Thermal Pad, IPC High Density)
footprint MUY08A_M (TSOP, 8-Leads, Body 3x3mm, Pitch 0.65mm, Thermal Pad, IPC Low Density)
pins: 1 IN_REF (power), 2 INB (in), 3 VEE (power), 4 IN (in), 5 NC, 6 VCC (power), 7 OUT (out), 8 NC, 9 DAP (power)

## LM5112Q1SD/NOPB
designator U?
Tiny 7A MOSFET Gate Driver, 6-pin LLP, Pb-Free; PartNumber: LM5112Q1SD/NOPB; Manufacturer: National Semiconductor; PackageTopMarking: ZXYTT*L250B; PowerWise: N; CompType: Switcher; High-Reliability: Y; DatasheetVersion: Apr-2006; PackageVersion: revA, Jul-2003; PackageReference: SDE06A; PackageDescription: LLP, Plastic, Dual, 3 x 3 x 0.8mm Body, 6 Lead, 0.95mm Pitch, No Pullback; RoHS: Y; PinCount: 6; ComponentLink1Description: Manufacturer URL; ComponentLink1URL: http://www.national.com/; ComponentLink2Description: LM5112 Datasheet; ComponentLink2URL: http://www.national.com/ds/LM/LM5112.pdf; ComponentLink3Description: LM5112 Web Page; ComponentLink3URL: http://www.national.com/pf/LM/LM5112.html; ComponentLink4Description: SDE06A Package Page; ComponentLink4URL: http://www.national.com/packaging/folders/sde06a.html
footprint SDE06A_full (SON, 6-Leads, Body 3x3 mm, Pitch 0.95mm, Full Paste, NSC Recommended)
footprint SDE06A_quad (SON, 6-Leads, Body 3x3 mm, Pitch 0.95mm, Quad Paste, NSC Recommended)
pins: 1 IN (in), 2 VEE (power), 3 VCC (power), 4 OUT (out), 5 IN_REF (power), 6 INB (in), 7 DAP (power)

## LM5112Q1SDX/NOPB
designator U?
Tiny 7A MOSFET Gate Driver, 6-pin LLP, Pb-Free; PartNumber: LM5112Q1SDX/NOPB; Manufacturer: National Semiconductor; PackageTopMarking: ZXYTT*L250B; PowerWise: N; CompType: Switcher; High-Reliability: Y; DatasheetVersion: Apr-2006; PackageVersion: revA, Jul-2003; PackageReference: SDE06A; PackageDescription: LLP, Plastic, Dual, 3 x 3 x 0.8mm Body, 6 Lead, 0.95mm Pitch, No Pullback; RoHS: Y; PinCount: 6; ComponentLink1Description: Manufacturer URL; ComponentLink1URL: http://www.national.com/; ComponentLink2Description: LM5112 Datasheet; ComponentLink2URL: http://www.national.com/ds/LM/LM5112.pdf; ComponentLink3Description: LM5112 Web Page; ComponentLink3URL: http://www.national.com/pf/LM/LM5112.html; ComponentLink4Description: SDE06A Package Page; ComponentLink4URL: http://www.national.com/packaging/folders/sde06a.html
footprint SDE06A_full (SON, 6-Leads, Body 3x3 mm, Pitch 0.95mm, Full Paste, NSC Recommended)
footprint SDE06A_quad (SON, 6-Leads, Body 3x3 mm, Pitch 0.95mm, Quad Paste, NSC Recommended)
pins: 1 IN (in), 2 VEE (power), 3 VCC (power), 4 OUT (out), 5 IN_REF (power), 6 INB (in), 7 DAP (power)

## LM5112SD
designator U?
Tiny 7A MOSFET Gate Driver, 6-pin LLP; PartNumber: LM5112SD; Manufacturer: National Semiconductor; PackageTopMarking: ZXYTT*L132B; PowerWise: N; CompType: Switcher; High-Reliability: Y; DatasheetVersion: Apr-2006; PackageVersion: revA, Jul-2003; PackageReference: SDE06A; PackageDescription: LLP, Plastic, Dual, 3 x 3 x 0.8mm Body, 6 Lead, 0.95mm Pitch, No Pullback; RoHS: N; PinCount: 6; ComponentLink1Description: Manufacturer URL; ComponentLink1URL: http://www.national.com/; ComponentLink2Description: LM5112 Datasheet; ComponentLink2URL: http://www.national.com/ds/LM/LM5112.pdf; ComponentLink3Description: LM5112 Web Page; ComponentLink3URL: http://www.national.com/pf/LM/LM5112.html; ComponentLink4Description: SDE06A Package Page; ComponentLink4URL: http://www.national.com/packaging/folders/sde06a.html
footprint SDE06A_full (SON, 6-Leads, Body 3x3 mm, Pitch 0.95mm, Full Paste, NSC Recommended)
footprint SDE06A_quad (SON, 6-Leads, Body 3x3 mm, Pitch 0.95mm, Quad Paste, NSC Recommended)
pins: 1 IN (in), 2 VEE (power), 3 VCC (power), 4 OUT (out), 5 IN_REF (power), 6 INB (in), 7 DAP (power)

## LM5112SD/NOPB
designator U?
Tiny 7A MOSFET Gate Driver, 6-pin LLP, Pb-Free; PartNumber: LM5112SD/NOPB; Manufacturer: National Semiconductor; PackageTopMarking: ZXYTT*L132B; PowerWise: N; CompType: Switcher; High-Reliability: Y; DatasheetVersion: Apr-2006; PackageVersion: revA, Jul-2003; PackageReference: SDE06A; PackageDescription: LLP, Plastic, Dual, 3 x 3 x 0.8mm Body, 6 Lead, 0.95mm Pitch, No Pullback; RoHS: Y; PinCount: 6; ComponentLink1Description: Manufacturer URL; ComponentLink1URL: http://www.national.com/; ComponentLink2Description: LM5112 Datasheet; ComponentLink2URL: http://www.national.com/ds/LM/LM5112.pdf; ComponentLink3Description: LM5112 Web Page; ComponentLink3URL: http://www.national.com/pf/LM/LM5112.html; ComponentLink4Description: SDE06A Package Page; ComponentLink4URL: http://www.national.com/packaging/folders/sde06a.html
footprint SDE06A_full (SON, 6-Leads, Body 3x3 mm, Pitch 0.95mm, Full Paste, NSC Recommended)
footprint SDE06A_quad (SON, 6-Leads, Body 3x3 mm, Pitch 0.95mm, Quad Paste, NSC Recommended)
pins: 1 IN (in), 2 VEE (power), 3 VCC (power), 4 OUT (out), 5 IN_REF (power), 6 INB (in), 7 DAP (power)

## LM5112SDX
designator U?
Tiny 7A MOSFET Gate Driver, 6-pin LLP; PartNumber: LM5112SDX; Manufacturer: National Semiconductor; PackageTopMarking: ZXYTT*L132B; PowerWise: N; CompType: Switcher; High-Reliability: Y; DatasheetVersion: Apr-2006; PackageVersion: revA, Jul-2003; PackageReference: SDE06A; PackageDescription: LLP, Plastic, Dual, 3 x 3 x 0.8mm Body, 6 Lead, 0.95mm Pitch, No Pullback; RoHS: N; PinCount: 6; ComponentLink1Description: Manufacturer URL; ComponentLink1URL: http://www.national.com/; ComponentLink2Description: LM5112 Datasheet; ComponentLink2URL: http://www.national.com/ds/LM/LM5112.pdf; ComponentLink3Description: LM5112 Web Page; ComponentLink3URL: http://www.national.com/pf/LM/LM5112.html; ComponentLink4Description: SDE06A Package Page; ComponentLink4URL: http://www.national.com/packaging/folders/sde06a.html
footprint SDE06A_full (SON, 6-Leads, Body 3x3 mm, Pitch 0.95mm, Full Paste, NSC Recommended)
footprint SDE06A_quad (SON, 6-Leads, Body 3x3 mm, Pitch 0.95mm, Quad Paste, NSC Recommended)
pins: 1 IN (in), 2 VEE (power), 3 VCC (power), 4 OUT (out), 5 IN_REF (power), 6 INB (in), 7 DAP (power)

## LM5115AMT
designator U?
Secondary Side Post Regulator / Synchronous Buck Controller, 16-pin TSSOP; PartNumber: LM5115AMT; Manufacturer: National Semiconductor; PackageTopMarking: NSUZXYTT*LM5115*AMT; PowerWise: N; CompType: Switcher; High-Reliability: Y; DatasheetVersion: Jan-2007; PackageVersion: revD, Jun-2003; PackageReference: MTC16; PackageDescription: Molded TSSOP, Jedec, 5 x 4.4 x 0.9mm Body, 16 Lead, 0.65mm Pitch; RoHS: N; PinCount: 16; Code_JEDEC: MO-153-AB; ComponentLink1Description: Manufacturer URL; ComponentLink1URL: http://www.national.com/; ComponentLink2Description: LM5115A Datasheet; ComponentLink2URL: http://www.national.com/ds/LM/LM5115A.pdf; ComponentLink3Description: LM5115A Web Page; ComponentLink3URL: http://www.national.com/pf/LM/LM5115A.html; ComponentLink4Description: MTC16 Package Page; ComponentLink4URL: http://www.national.com/packaging/folders/mtc16.html
footprint MTC16_N (TSOP, 16-Leads, Body 5x4.4mm, Pitch 0.65mm, IPC Medium Density)
footprint MTC16_L (TSOP, 16-Leads, Body 5x4.4mm, Pitch 0.65mm, IPC High Density)
footprint MTC16_M (TSOP, 16-Leads, Body 5x4.4mm, Pitch 0.65mm, IPC Low Density)
pins: 1 CS (in), 2 VOUT, 3 AGND (power), 4 CO (out), 5 COMP, 6 FB (in), 7 TRK/SS (in), 8 RAMP, 9 SYNC, 10 PGND (power), 11 LO (out), 12 VCC (power), 13 HS (in), 14 HO (out), 15 HB, 16 VBIAS (in)

## LM5115AMT/NOPB
designator U?
Secondary Side Post Regulator/DC-DC Converter with Power-up/Power-down Tracking, 16-pin TSSOP, Pb-Free; PartNumber: LM5115AMT/NOPB; Manufacturer: National Semiconductor; PackageTopMarking: NSUZXYTT*LM5115*AMT; PowerWise: N; CompType: Switcher; High-Reliability: Y; DatasheetVersion: Jan-2007; PackageVersion: revD, Jun-2003; PackageReference: MTC16; PackageDescription: Molded TSSOP, Jedec, 5 x 4.4 x 0.9mm Body, 16 Lead, 0.65mm Pitch; RoHS: Y; PinCount: 16; Code_JEDEC: MO-153-AB; ComponentLink1Description: Manufacturer URL; ComponentLink1URL: http://www.national.com/; ComponentLink2Description: LM5115A Datasheet; ComponentLink2URL: http://www.national.com/ds/LM/LM5115A.pdf; ComponentLink3Description: LM5115A Web Page; ComponentLink3URL: http://www.national.com/pf/LM/LM5115A.html; ComponentLink4Description: MTC16 Package Page; ComponentLink4URL: http://www.national.com/packaging/folders/mtc16.html
footprint MTC16_N (TSOP, 16-Leads, Body 5x4.4mm, Pitch 0.65mm, IPC Medium Density)
footprint MTC16_L (TSOP, 16-Leads, Body 5x4.4mm, Pitch 0.65mm, IPC High Density)
footprint MTC16_M (TSOP, 16-Leads, Body 5x4.4mm, Pitch 0.65mm, IPC Low Density)
pins: 1 CS (in), 2 VOUT, 3 AGND (power), 4 CO (out), 5 COMP, 6 FB (in), 7 TRK/SS (in), 8 RAMP, 9 SYNC, 10 PGND (power), 11 LO (out), 12 VCC (power), 13 HS (in), 14 HO (out), 15 HB, 16 VBIAS (in)

## LM5115AMTX
designator U?
Secondary Side Post Regulator/DC-DC Converter with Power-up/Power-down Tracking, 16-pin TSSOP; PartNumber: LM5115AMTX; Manufacturer: National Semiconductor; PackageTopMarking: NSUZXYTT*LM5115*AMT; PowerWise: N; CompType: Switcher; High-Reliability: Y; DatasheetVersion: Jan-2007; PackageVersion: revD, Jun-2003; PackageReference: MTC16; PackageDescription: Molded TSSOP, Jedec, 5 x 4.4 x 0.9mm Body, 16 Lead, 0.65mm Pitch; RoHS: N; PinCount: 16; Code_JEDEC: MO-153-AB; ComponentLink1Description: Manufacturer URL; ComponentLink1URL: http://www.national.com/; ComponentLink2Description: LM5115A Datasheet; ComponentLink2URL: http://www.national.com/ds/LM/LM5115A.pdf; ComponentLink3Description: LM5115A Web Page; ComponentLink3URL: http://www.national.com/pf/LM/LM5115A.html; ComponentLink4Description: MTC16 Package Page; ComponentLink4URL: http://www.national.com/packaging/folders/mtc16.html
footprint MTC16_N (TSOP, 16-Leads, Body 5x4.4mm, Pitch 0.65mm, IPC Medium Density)
footprint MTC16_L (TSOP, 16-Leads, Body 5x4.4mm, Pitch 0.65mm, IPC High Density)
footprint MTC16_M (TSOP, 16-Leads, Body 5x4.4mm, Pitch 0.65mm, IPC Low Density)
pins: 1 CS (in), 2 VOUT, 3 AGND (power), 4 CO (out), 5 COMP, 6 FB (in), 7 TRK/SS (in), 8 RAMP, 9 SYNC, 10 PGND (power), 11 LO (out), 12 VCC (power), 13 HS (in), 14 HO (out), 15 HB, 16 VBIAS (in)

## LM5115AMTX/NOPB
designator U?
Secondary Side Post Regulator/DC-DC Converter with Power-up/Power-down Tracking, 16-pin TSSOP, Pb-Free; PartNumber: LM5115AMTX/NOPB; Manufacturer: National Semiconductor; PackageTopMarking: NSUZXYTT*LM5115*AMT; PowerWise: N; CompType: Switcher; High-Reliability: Y; DatasheetVersion: Jan-2007; PackageVersion: revD, Jun-2003; PackageReference: MTC16; PackageDescription: Molded TSSOP, Jedec, 5 x 4.4 x 0.9mm Body, 16 Lead, 0.65mm Pitch; RoHS: Y; PinCount: 16; Code_JEDEC: MO-153-AB; ComponentLink1Description: Manufacturer URL; ComponentLink1URL: http://www.national.com/; ComponentLink2Description: LM5115A Datasheet; ComponentLink2URL: http://www.national.com/ds/LM/LM5115A.pdf; ComponentLink3Description: LM5115A Web Page; ComponentLink3URL: http://www.national.com/pf/LM/LM5115A.html; ComponentLink4Description: MTC16 Package Page; ComponentLink4URL: http://www.national.com/packaging/folders/mtc16.html
footprint MTC16_N (TSOP, 16-Leads, Body 5x4.4mm, Pitch 0.65mm, IPC Medium Density)
footprint MTC16_L (TSOP, 16-Leads, Body 5x4.4mm, Pitch 0.65mm, IPC High Density)
footprint MTC16_M (TSOP, 16-Leads, Body 5x4.4mm, Pitch 0.65mm, IPC Low Density)
pins: 1 CS (in), 2 VOUT, 3 AGND (power), 4 CO (out), 5 COMP, 6 FB (in), 7 TRK/SS (in), 8 RAMP, 9 SYNC, 10 PGND (power), 11 LO (out), 12 VCC (power), 13 HS (in), 14 HO (out), 15 HB, 16 VBIAS (in)

## LM5115MTC
designator U?
Secondary Side Post Regulator / Synchronous Buck Controller, 16-pin TSSOP; PartNumber: LM5115MTC; Manufacturer: National Semiconductor; PackageTopMarking: NSUZXYTT*LM5115*MTC; PowerWise: N; CompType: Switcher; High-Reliability: Y; DatasheetVersion: Jul-2006; PackageVersion: revD, Jun-2003; PackageReference: MTC16; PackageDescription: Molded TSSOP, Jedec, 5 x 4.4 x 0.9mm Body, 16 Lead, 0.65mm Pitch; RoHS: N; PinCount: 16; Code_JEDEC: MO-153-AB; ComponentLink1Description: Manufacturer URL; ComponentLink1URL: http://www.national.com/; ComponentLink2Description: LM5115 Datasheet; ComponentLink2URL: http://www.national.com/ds/LM/LM5115.pdf; ComponentLink3Description: LM5115 Web Page; ComponentLink3URL: http://www.national.com/pf/LM/LM5115.html; ComponentLink4Description: MTC16 Package Page; ComponentLink4URL: http://www.national.com/packaging/folders/mtc16.html
footprint MTC16_N (TSOP, 16-Leads, Body 5x4.4mm, Pitch 0.65mm, IPC Medium Density)
footprint MTC16_L (TSOP, 16-Leads, Body 5x4.4mm, Pitch 0.65mm, IPC High Density)
footprint MTC16_M (TSOP, 16-Leads, Body 5x4.4mm, Pitch 0.65mm, IPC Low Density)
pins: 1 CS (in), 2 VOUT, 3 AGND (power), 4 CO (out), 5 COMP, 6 FB (in), 7 SS (in), 8 RAMP, 9 SYNC, 10 PGND (power), 11 LO (out), 12 VCC (power), 13 HS (in), 14 HO (out), 15 HB, 16 VBIAS (in)

## LM5115MTC/NOPB
designator U?
Secondary Side Post Regulator / Synchronous Buck Controller, 16-pin TSSOP, Pb-Free; PartNumber: LM5115MTC/NOPB; Manufacturer: National Semiconductor; PackageTopMarking: NSUZXYTT*LM5115*MTC; PowerWise: N; CompType: Switcher; High-Reliability: Y; DatasheetVersion: Jul-2006; PackageVersion: revD, Jun-2003; PackageReference: MTC16; PackageDescription: Molded TSSOP, Jedec, 5 x 4.4 x 0.9mm Body, 16 Lead, 0.65mm Pitch; RoHS: Y; PinCount: 16; Code_JEDEC: MO-153-AB; ComponentLink1Description: Manufacturer URL; ComponentLink1URL: http://www.national.com/; ComponentLink2Description: LM5115 Datasheet; ComponentLink2URL: http://www.national.com/ds/LM/LM5115.pdf; ComponentLink3Description: LM5115 Web Page; ComponentLink3URL: http://www.national.com/pf/LM/LM5115.html; ComponentLink4Description: MTC16 Package Page; ComponentLink4URL: http://www.national.com/packaging/folders/mtc16.html
footprint MTC16_N (TSOP, 16-Leads, Body 5x4.4mm, Pitch 0.65mm, IPC Medium Density)
footprint MTC16_L (TSOP, 16-Leads, Body 5x4.4mm, Pitch 0.65mm, IPC High Density)
footprint MTC16_M (TSOP, 16-Leads, Body 5x4.4mm, Pitch 0.65mm, IPC Low Density)
pins: 1 CS (in), 2 VOUT, 3 AGND (power), 4 CO (out), 5 COMP, 6 FB (in), 7 SS (in), 8 RAMP, 9 SYNC, 10 PGND (power), 11 LO (out), 12 VCC (power), 13 HS (in), 14 HO (out), 15 HB, 16 VBIAS (in)

## LM5115MTCX
designator U?
Secondary Side Post Regulator / Synchronous Buck Controller, 16-pin TSSOP; PartNumber: LM5115MTCX; Manufacturer: National Semiconductor; PackageTopMarking: NSUZXYTT*LM5115*MTC; PowerWise: N; CompType: Switcher; High-Reliability: Y; DatasheetVersion: Jul-2006; PackageVersion: revD, Jun-2003; PackageReference: MTC16; PackageDescription: Molded TSSOP, Jedec, 5 x 4.4 x 0.9mm Body, 16 Lead, 0.65mm Pitch; RoHS: N; PinCount: 16; Code_JEDEC: MO-153-AB; ComponentLink1Description: Manufacturer URL; ComponentLink1URL: http://www.national.com/; ComponentLink2Description: LM5115 Datasheet; ComponentLink2URL: http://www.national.com/ds/LM/LM5115.pdf; ComponentLink3Description: LM5115 Web Page; ComponentLink3URL: http://www.national.com/pf/LM/LM5115.html; ComponentLink4Description: MTC16 Package Page; ComponentLink4URL: http://www.national.com/packaging/folders/mtc16.html
footprint MTC16_N (TSOP, 16-Leads, Body 5x4.4mm, Pitch 0.65mm, IPC Medium Density)
footprint MTC16_L (TSOP, 16-Leads, Body 5x4.4mm, Pitch 0.65mm, IPC High Density)
footprint MTC16_M (TSOP, 16-Leads, Body 5x4.4mm, Pitch 0.65mm, IPC Low Density)
pins: 1 CS (in), 2 VOUT, 3 AGND (power), 4 CO (out), 5 COMP, 6 FB (in), 7 SS (in), 8 RAMP, 9 SYNC, 10 PGND (power), 11 LO (out), 12 VCC (power), 13 HS (in), 14 HO (out), 15 HB, 16 VBIAS (in)

## LM5115SD
designator U?
Secondary Side Post Regulator / Synchronous Buck Controller, 16-pin LLP; PartNumber: LM5115SD; Manufacturer: National Semiconductor; PackageTopMarking: NS*UZXYTT*5115SD; PowerWise: N; CompType: Switcher; High-Reliability: Y; DatasheetVersion: Jul-2006; PackageVersion: revA, May-2003; PackageReference: SDA16A; PackageDescription: LLP, Plastic, Dual, 5 x 5 x 0.8mm Body,16 Lead, 0.5mm Pitch, No Pullback; RoHS: N; PinCount: 16; ComponentLink1Description: Manufacturer URL; ComponentLink1URL: http://www.national.com/; ComponentLink2Description: LM5115 Datasheet; ComponentLink2URL: http://www.national.com/ds/LM/LM5115.pdf; ComponentLink3Description: LM5115 Web Page; ComponentLink3URL: http://www.national.com/pf/LM/LM5115.html; ComponentLink4Description: SDA16A Package Page; ComponentLink4URL: http://www.national.com/packaging/folders/sda16a.html
footprint SDA16A (SON, 16-Leads, Body 5x5mm, Pitch 0.5mm, NSC Recommended)
pins: 1 CS (in), 2 VOUT, 3 AGND (power), 4 CO (out), 5 COMP, 6 FB (in), 7 SS (in), 8 RAMP, 9 SYNC, 10 PGND (power), 11 LO (out), 12 VCC (power), 13 HS (in), 14 HO (out), 15 HB, 16 VBIAS (in), 17 DAP (power)

## LM5115SDX
designator U?
Secondary Side Post Regulator / Synchronous Buck Controller, 16-pin LLP; PartNumber: LM5115SDX; Manufacturer: National Semiconductor; PackageTopMarking: NS*UZXYTT*5115SD; PowerWise: N; CompType: Switcher; High-Reliability: Y; DatasheetVersion: Jul-2006; PackageVersion: revA, May-2003; PackageReference: SDA16A; PackageDescription: LLP, Plastic, Dual, 5 x 5 x 0.8mm Body,16 Lead, 0.5mm Pitch, No Pullback; RoHS: N; PinCount: 16; ComponentLink1Description: Manufacturer URL; ComponentLink1URL: http://www.national.com/; ComponentLink2Description: LM5115 Datasheet; ComponentLink2URL: http://www.national.com/ds/LM/LM5115.pdf; ComponentLink3Description: LM5115 Web Page; ComponentLink3URL: http://www.national.com/pf/LM/LM5115.html; ComponentLink4Description: SDA16A Package Page; ComponentLink4URL: http://www.national.com/packaging/folders/sda16a.html
footprint SDA16A (SON, 16-Leads, Body 5x5mm, Pitch 0.5mm, NSC Recommended)
pins: 1 CS (in), 2 VOUT, 3 AGND (power), 4 CO (out), 5 COMP, 6 FB (in), 7 SS (in), 8 RAMP, 9 SYNC, 10 PGND (power), 11 LO (out), 12 VCC (power), 13 HS (in), 14 HO (out), 15 HB, 16 VBIAS (in), 17 DAP (power)